# Altium schematic symbol library n-mosfet_5.Schlib: 1 symbol
Pins are listed as number, name and electrical type; pins without a type are passive.

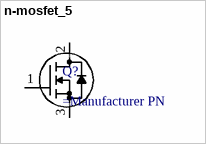
[diagram p0: symbol n-mosfet_5]

## n-mosfet_5
designator Q?
N-MOSFET intended for TO-220 packages
pins: 1 G, 2 D, 3 S